# Altium schematic symbol library Header 1x8.SchLib: 1 symbol
Pins are listed as number, name and electrical type; pins without a type are passive.

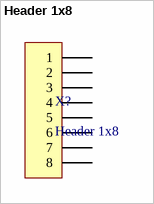
[diagram p0: symbol Header 1x8]

## Header 1x8
designator X?
Header, 8-Pin, single row
footprint PLS1-8
footprint PLS1-8R
pins: 1, 2, 3, 4, 5, 6, 7, 8